# Altium footprint library pidbot.PcbLib: 20 footprints (part 1 of 2)
Each footprint in its own frame and in the unit in brackets; x right, y up, seen from the top. Pads: shape width x height; smd on the part's side, far side on the other; paste and mask are expansions set on the pad; w line width, h text height; cw(c..) or ccw(c..) is an arc to the next point about the centre after c.
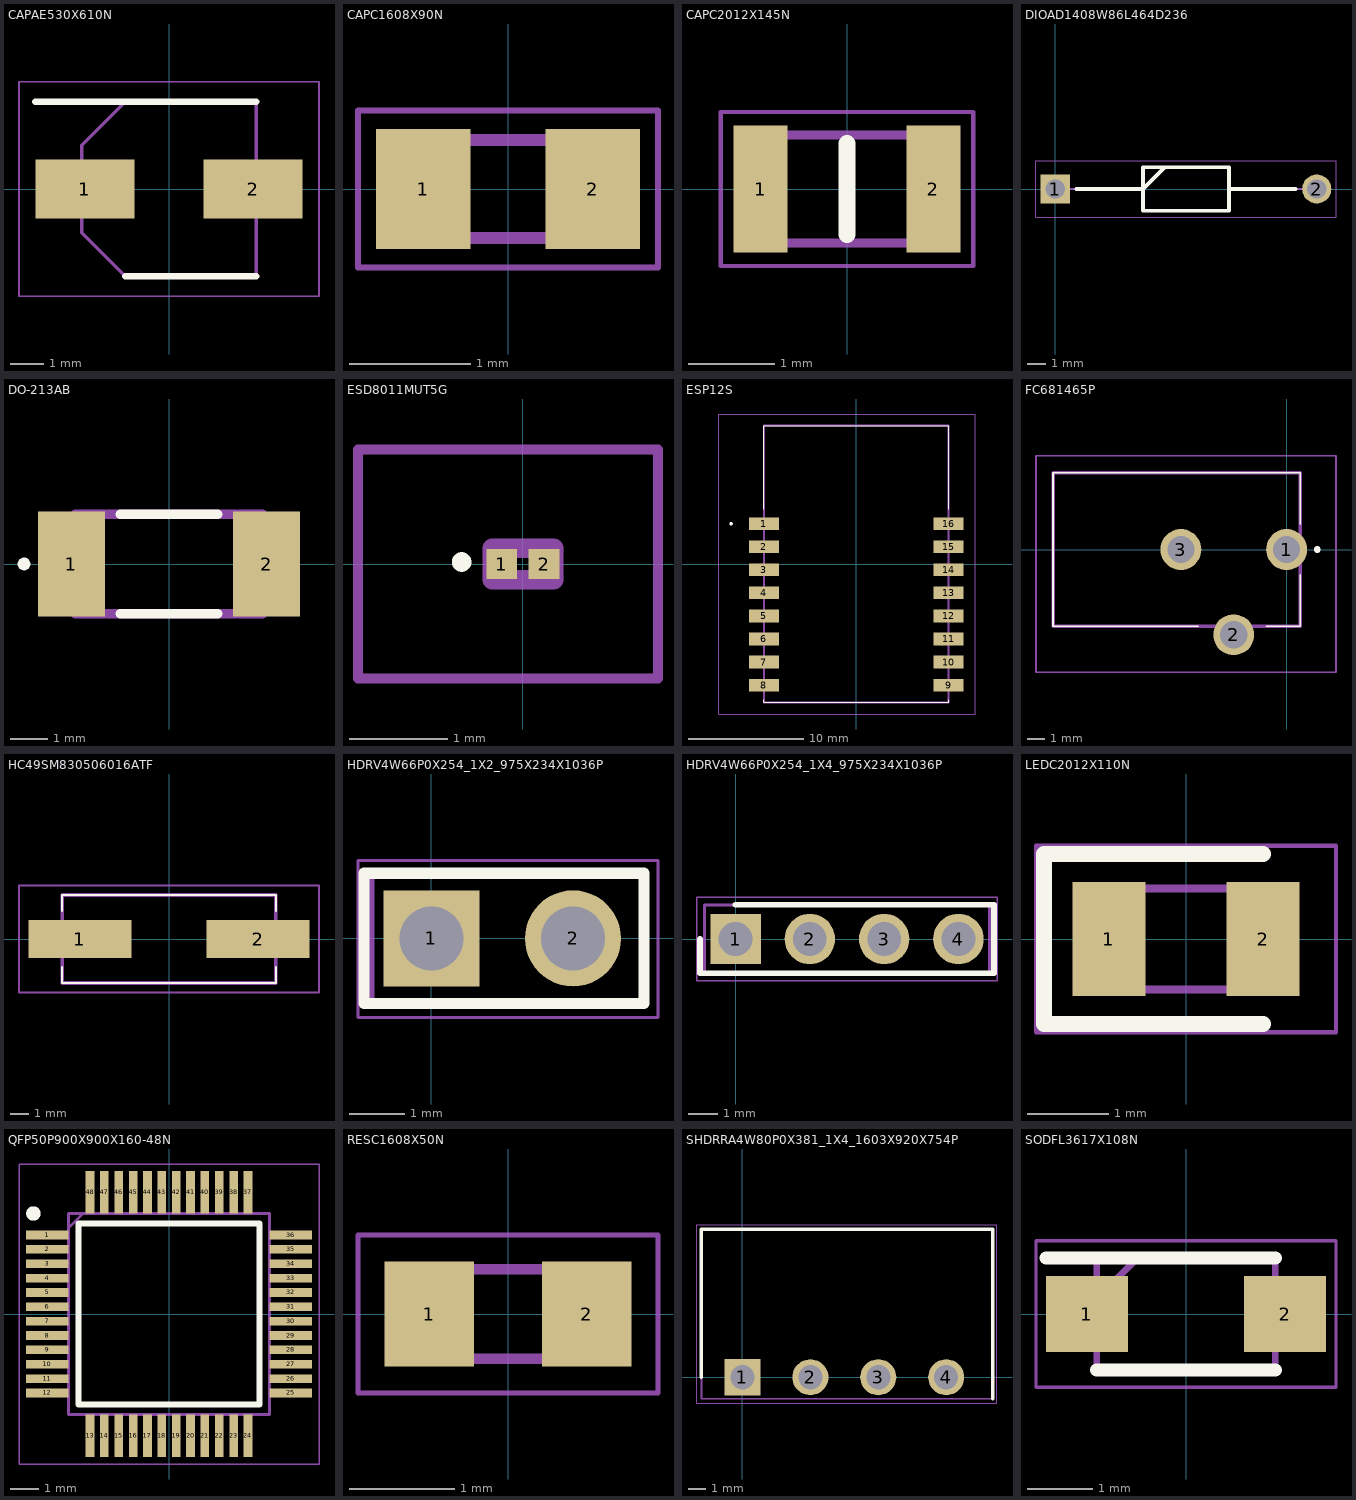
[diagram p0: the footprints below, top view; thin cyan lines are the x and y axes]

## CAPAE530X610N [mm]
pads (2):
  rect 3x1.8 smd: 1(-2.55,0) 2(2.55,0)
Top Overlay:
  lines w0.2: -4.05,2.65 2.65,2.65 ; -1.325,-2.65 2.65,-2.65
Mechanical 13:
  lines w0.1: -2.65,-1.325 -1.325,-2.65 2.65,-2.65 2.65,2.65 -1.325,2.65 -2.65,1.325 -2.65,-1.325
Mechanical 15:
  lines w0.05: -4.55,-3.25 -4.55,3.25 4.55,3.25 4.55,-3.25 -4.55,-3.25
3D body "EEEFK0J470R.stp": height 6.1, standoff 0, extent -3.25,-2.75 3.25,2.75

## CAPC1608X90N [mm]
pads (2):
  rect 0.78x0.99 smd: 1(-0.7,0) 2(0.7,0)
Mechanical 13:
  lines w0.1: -0.8,-0.405 -0.8,0.405 0.8,0.405 0.8,-0.405 -0.8,-0.405
Mechanical 15:
  lines w0.05: -1.24,-0.65 -1.24,0.65 1.24,0.65 1.24,-0.65 -1.24,-0.65
3D body "06035A270FAT2A.stp": height 0.9, standoff 0, extent -0.8,-0.405 0.8,0.405

## CAPC2012X145N [mm]
pads (2):
  rect 0.62x1.47 smd: 1(-1,0) 2(1,0)
Top Overlay:
  lines w0.2: 0,-0.525 0,0.525
Mechanical 13:
  lines w0.1: -1,-0.625 1,-0.625 1,0.625 -1,0.625 -1,-0.625
Mechanical 15:
  lines w0.05: -1.46,-0.89 1.46,-0.89 1.46,0.89 -1.46,0.89 -1.46,-0.89
3D body "C2012X6S1A106K125AB.stp": height 1.45, standoff 0, extent -1,-0.625 1,0.625

## DIOAD1408W86L464D236 [mm]
pads (2):
  rect 1.575x1.575 hole 1.05: 1(0,0)
  round 1.575 hole 1.05: 2(14.1,0)
Top Overlay:
  lines w0.2: 1.138,0 4.732,0 5.912,1.18 ; 9.368,0 12.962,0 ; 4.732,-1.18 4.732,1.18 9.368,1.18 9.368,-1.18 4.732,-1.18
Mechanical 13:
  lines w0.1: 0,0 4.732,0 5.912,1.18 ; 9.368,0 14.1,0 ; 4.732,-1.18 4.732,1.18 9.367,1.18 9.367,-1.18 4.732,-1.18
Mechanical 15:
  lines w0.05: -1.038,-1.53 -1.038,1.53 15.137,1.53 15.137,-1.53 -1.038,-1.53
3D body "1N4002-T.stp": height 2.71, standoff -2.72, extent -0.429,-1.357 14.507,1.357

## DO-213AB [mm]
pads (2):
  rect 1.8x2.8 smd: 1(-2.6,0) 2(2.6,0)
Top Overlay:
  circle w0.254: c-3.867,0.002 r0.042
  lines w0.254: -1.3,-1.33 1.3,-1.33 ; -1.3,1.33 1.3,1.33
Mechanical 13:
  lines w0.254: -2.5,-1.33 -2.5,1.33 2.5,1.33 2.5,-1.33 -2.5,-1.33

## ESD8011MUT5G [mm]
pads (2):
  rect 0.31x0.3 smd: 1(-0.215,0) 2(0.215,0)
Top Overlay:
  lines w0.1: -0.67,0.02 ccw(c-0.62,0.02) -0.57,0.02 ccw(c-0.62,0.02) -0.67,0.02
Mechanical 13:
  lines w0.2: -0.31,-0.16 -0.31,0.16 0.31,0.16 0.31,-0.16 -0.31,-0.16
Mechanical 15:
  lines w0.1: -1.67,-1.16 -1.67,1.16 1.37,1.16 1.37,-1.16 -1.67,-1.16
3D body "ESDM3031MXT5G.stp": height 0.43, standoff 0, extent -0.34,-0.16 0.34,0.16

## ESP12S [mm]
pads (16):
  rect 2.6x1.1 smd: 1(-8,3.5) 2(-8,1.5) 3(-8,-0.5) 4(-8,-2.5) 5(-8,-4.5) 6(-8,-6.5) 7(-8,-8.5) 8(-8,-10.5) 9(8,-10.5) 10(8,-8.5) 11(8,-6.5) 12(8,-4.5) 13(8,-2.5) 14(8,-0.5) 15(8,1.5) 16(8,3.5)
Top Overlay:
  lines w0.1: -8,-12 -8,-11.75 -8,-12 ; -8,-12 8,-12 ; -8,-12 8,-12 ; -8,12 8,12 ; -8,12 8,12 ; -8,12 -8,4.75 -8,12 ; 8,-12 8,-11.75 8,-12 ; 8,12 8,4.75 8,12
  lines w0.2: -10.9,3.5 ccw(c-10.85,3.5) -10.8,3.5 ; -10.9,3.5 cw(c-10.85,3.5) -10.8,3.5 ; -10.9,3.5 ccw(c-10.85,3.5) -10.8,3.5
Mechanical 13:
  lines w0.2: -8,-12 -8,12 8,12 8,-12 -8,-12
Mechanical 15:
  lines w0.1: -11.9,-13 -11.9,13 10.3,13 10.3,-13 -11.9,-13
3D body "ESP-12S.stp": height 3.1, standoff 0, extent -8,-12 8,12

## FC681465P [mm]
pads (3):
  round 2.4 hole 1.6: 1(0,0) 2(-3.1,-5) 3(-6.2,0)
Top Overlay:
  lines w0.1: -5.2,-4.5 -13.7,-4.5 -13.7,4.5 0.8,4.5 0.8,1.5 ; -1.2,-4.5 0.8,-4.5 0.8,-1.5
  lines w0.2: 1.8,-0.1 cw(c1.8,0) 1.8,0.1 cw(c1.8,0) 1.8,-0.1
Mechanical 13:
  lines w0.2: -13.7,-4.5 0.8,-4.5 0.8,4.5 -13.7,4.5 -13.7,-4.5
Mechanical 15:
  lines w0.1: -14.7,-7.2 2.9,-7.2 2.9,5.5 -14.7,5.5 -14.7,-7.2
3D body "FC681465P.stp": height 11.1, standoff -5, extent -13.7,-5.699 0.8,4.5

## HC49SM830506016ATF [mm]
pads (2):
  rect 5.5x2 smd: 1(-4.75,0) 2(4.75,0)
Top Overlay:
  lines w0.1: -5.7,-1.5 -5.7,-2.35 5.7,-2.35 5.7,-1.5 ; -5.7,1.5 -5.7,2.35 5.7,2.35 5.7,1.5
Mechanical 13:
  lines w0.2: -5.7,-2.35 -5.7,2.35 5.7,2.35 5.7,-2.35 -5.7,-2.35
Mechanical 15:
  lines w0.1: -8,-2.85 -8,2.85 ; -8,-2.85 8,-2.85 ; -8,-2.85 -8,2.85 ; -8,-2.85 8,-2.85 ; -8,2.85 8,2.85 ; -8,2.85 8,2.85 ; 8,-2.85 8,2.85 ; 8,-2.85 8,2.85
3D body "HC49SM-8-30-50-60-16-ATF.stp": height 4.1, standoff 0, extent -7.3,-2.35 7.3,2.35

## HDRV4W66P0X254_1X2_975X234X1036P [mm]
pads (2):
  rect 1.725x1.725 hole 1.15: 1(0,0)
  round 1.725 hole 1.15: 2(2.54,0)
Top Overlay:
  lines w0.2: -1.212,-1.168 -1.212,1.169 3.81,1.169 3.81,-1.168 -1.212,-1.168
Mechanical 13:
  lines w0.1: 3.81,-1.168 -1.067,-1.168 -1.067,1.169 3.81,1.169 ; 3.822,-1.168 3.822,1.169
Mechanical 15:
  lines w0.05: 4.064,-1.418 -1.317,-1.418 -1.317,1.397 4.064,1.397 4.064,-1.397

## HDRV4W66P0X254_1X4_975X234X1036P [mm]
pads (4):
  rect 1.725x1.725 hole 1.15: 1(0,0)
  round 1.725 hole 1.15: 2(2.54,0) 3(5.08,0) 4(7.62,0)
Top Overlay:
  lines w0.2: -1.212,0 -1.212,-1.168 8.833,-1.168 8.833,1.169 0,1.169
Mechanical 13:
  lines w0.1: -1.067,-1.168 8.687,-1.168 8.687,1.169 -1.067,1.169 -1.067,-1.168
Mechanical 15:
  lines w0.05: -1.317,-1.418 8.937,-1.418 8.937,1.419 -1.317,1.419 -1.317,-1.418
3D body "103321-4.stp": height 10.37, standoff -3.17, extent -1.067,-1.168 8.687,1.168

## LEDC2012X110N [mm]
pads (2):
  rect 0.9x1.4 smd: 1(-0.95,0) 2(0.95,0)
Top Overlay:
  lines w0.2: 0.95,-1.05 -1.75,-1.05 -1.75,1.05 0.95,1.05
Mechanical 13:
  lines w0.1: -1,0.208 -0.583,0.625 ; -1,-0.625 1,-0.625 1,0.625 -1,0.625 -1,-0.625
Mechanical 15:
  lines w0.05: -1.85,-1.15 1.85,-1.15 1.85,1.15 -1.85,1.15 -1.85,-1.15

## QFP50P900X900X160-48N [mm]
pads (48):
  rect 1.475x0.3 smd: 1(-4.238,2.75) 2(-4.238,2.25) 3(-4.238,1.75) 4(-4.238,1.25) 5(-4.238,0.75) 6(-4.238,0.25) 7(-4.238,-0.25) 8(-4.238,-0.75) 9(-4.238,-1.25) 10(-4.238,-1.75) 11(-4.238,-2.25) 12(-4.238,-2.75) 25(4.238,-2.75) 26(4.238,-2.25) 27(4.238,-1.75) 28(4.238,-1.25) 29(4.238,-0.75) 30(4.238,-0.25) 31(4.238,0.25) 32(4.238,0.75) 33(4.238,1.25) 34(4.238,1.75) 35(4.238,2.25) 36(4.238,2.75)
  rect 0.3x1.475 smd: 13(-2.75,-4.238) 14(-2.25,-4.238) 15(-1.75,-4.238) 16(-1.25,-4.238) 17(-0.75,-4.238) 18(-0.25,-4.238) 19(0.25,-4.238) 20(0.75,-4.238) 21(1.25,-4.238) 22(1.75,-4.238) 23(2.25,-4.238) 24(2.75,-4.238) 37(2.75,4.238) 38(2.25,4.238) 39(1.75,4.238) 40(1.25,4.238) 41(0.75,4.238) 42(0.25,4.238) 43(-0.25,4.238) 44(-0.75,4.238) 45(-1.25,4.238) 46(-1.75,4.238) 47(-2.25,4.238) 48(-2.75,4.238)
Top Overlay:
  circle w0.25: c-4.725,3.5 r0.125
  lines w0.2: -3.15,-3.15 -3.15,3.15 3.15,3.15 3.15,-3.15 -3.15,-3.15
Mechanical 13:
  lines w0.1: -3.5,3 -3,3.5 ; -3.5,-3.5 -3.5,3.5 3.5,3.5 3.5,-3.5 -3.5,-3.5
Mechanical 15:
  lines w0.05: -5.225,-5.225 -5.225,5.225 5.225,5.225 5.225,-5.225 -5.225,-5.225
3D body "stm32f103c8t6.stp": height 1.6, standoff 0, extent -4.5,-4.5 4.5,4.5

## RESC1608X50N [mm]
pads (2):
  rect 0.85x1 smd: 1(-0.75,0) 2(0.75,0)
Mechanical 13:
  lines w0.1: -0.788,-0.425 -0.788,0.425 0.788,0.425 0.788,-0.425 -0.788,-0.425
Mechanical 15:
  lines w0.05: -1.425,-0.75 -1.425,0.75 1.425,0.75 1.425,-0.75 -1.425,-0.75
3D body "CRCW06031M10FKEA.stp": height 0.5, standoff 0, extent -0.788,-0.425 0.787,0.425

## SHDRRA4W80P0X381_1X4_1603X920X754P [mm]
pads (4):
  rect 2.025x2.025 hole 1.35: 1(0,0)
  round 2.025 hole 1.35: 2(3.81,0) 3(7.62,0) 4(11.43,0)
Top Overlay:
  lines w0.2: -2.3,0 -2.3,8.3 14.03,8.3 14.03,-1.2
Mechanical 13:
  lines w0.1: -2.3,-1.2 14.03,-1.2 14.03,8.3 -2.3,8.3 -2.3,-1.2
Mechanical 15:
  lines w0.05: -2.55,-1.45 -2.55,8.55 14.28,8.55 14.28,-1.45 -2.55,-1.45
3D body "15EDGRC-3.81-04P-14-00A_H_.stp": height 7.54, standoff -3.7, extent -2.3,-1.2 13.73,8

## SODFL3617X108N [mm]
pads (2):
  rect 1.26x1.17 smd: 1(-1.525,0) 2(1.525,0)
Top Overlay:
  lines w0.2: -2.155,0.862 1.375,0.862 ; -1.375,-0.862 1.375,-0.862
Mechanical 13:
  lines w0.1: -1.375,0.232 -0.745,0.862 ; -1.375,-0.862 -1.375,0.862 1.375,0.862 1.375,-0.862 -1.375,-0.862
Mechanical 15:
  lines w0.05: -2.305,-1.125 -2.305,1.125 2.305,1.125 2.305,-1.125 -2.305,-1.125
3D body "SS14FL.stp": height 1.08, standoff 0, extent -1.8,-0.863 1.8,0.863